# Altium footprint library Attend Footprints.PcbLib: 3 footprints
Each footprint in its own frame and in the unit in brackets; x right, y up, seen from the top. Pads: shape width x height; smd on the part's side, far side on the other; paste and mask are expansions set on the pad; w line width, h text height; cw(c..) or ccw(c..) is an arc to the next point about the centre after c.
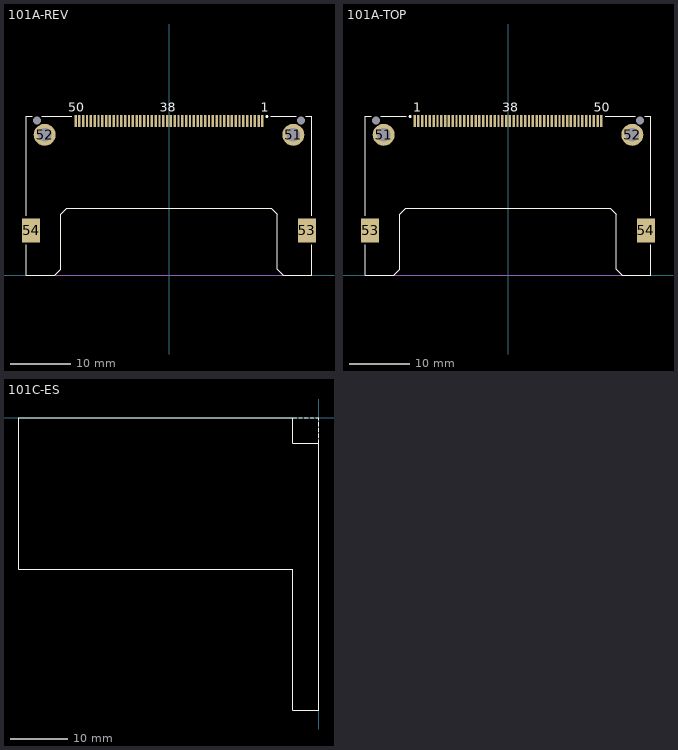
[diagram p0: the footprints below, top view; thin cyan lines are the x and y axes]

## 101A-REV [mm] "Connector; CompactFlash Card Header, SM; Reverse Mount; 50 Position; Right Angle; Pitch 0.635 mm"
height 6.8
pads (56):
  rect 0.4x2 smd: 1(15.557,25.7) 2(14.287,25.7) 3(13.018,25.7) 4(11.747,25.7) 5(10.477,25.7) 6(9.207,25.7) 7(7.938,25.7) 8(6.667,25.7) 9(5.397,25.7) 10(4.127,25.7) 11(2.857,25.7) 12(1.587,25.7) 13(0.318,25.7) 14(-0.953,25.7) 15(-2.222,25.7) 16(-3.492,25.7) 17(-4.763,25.7) 18(-6.032,25.7) 19(-7.302,25.7) 20(-8.572,25.7) 21(-9.842,25.7) 22(-11.112,25.7) 23(-12.383,25.7) 24(-13.652,25.7) 25(-14.922,25.7) 26(14.922,25.7) 27(13.652,25.7) 28(12.383,25.7) 29(11.112,25.7) 30(9.842,25.7) 31(8.572,25.7) 32(7.302,25.7) 33(6.032,25.7) 34(4.763,25.7) 35(3.492,25.7) 36(2.222,25.7) 37(0.953,25.7) 38(-0.318,25.7) 39(-1.587,25.7) 40(-2.857,25.7) 41(-4.127,25.7) 42(-5.397,25.7) 43(-6.667,25.7) 44(-7.938,25.7) 45(-9.207,25.7) 46(-10.477,25.7) 47(-11.747,25.7) 48(-13.018,25.7) 49(-14.287,25.7) 50(-15.557,25.7)
  round 3.65 hole 2.3: 51(20.7,23.4) 52(-20.7,23.4)
  rect 3x4 smd: 53(22.98,7.5) 54(-22.98,7.5)
  round 1 hole 1.3 unplated: 55(22,25.8) 56(-22,25.8)
Top Overlay:
  circle w0.25: c16.3,26.45 r0.125
  lines w0.2: -23.8,5.1 -23.8,0 -19,0 -18,1 -18,10.2 -17,11.2 17,11.2 18,10.2 18,1 19,0 23.8,0 23.8,5.1 ; -23.8,9.9 -23.8,26.5 -22.8,26.5 ; -21.2,26.5 -16.16,26.5 ; 16.957,26.5 21.2,26.5 ; 22.8,26.5 23.8,26.5 23.8,9.9
  text "38" at -1.568,27.25 h1.5
  text "1" at 15.308,27.25 h1.5
  text "50" at -16.808,27.25 h1.5
Mechanical 1:
  lines w0.1: -23.8,0 23.8,0
  text "PCB Edge" at -17.3,0.45 h0.6

## 101A-TOP [mm] "Connector; CompactFlash Card Header, SM; Standard Mount; 50 Position; Right Angle; Pitch 0.635 mm"
height 6.8
pads (56):
  rect 0.4x2 smd: 1(-15.557,25.7) 2(-14.287,25.7) 3(-13.018,25.7) 4(-11.747,25.7) 5(-10.477,25.7) 6(-9.207,25.7) 7(-7.938,25.7) 8(-6.667,25.7) 9(-5.397,25.7) 10(-4.127,25.7) 11(-2.857,25.7) 12(-1.587,25.7) 13(-0.318,25.7) 14(0.953,25.7) 15(2.222,25.7) 16(3.492,25.7) 17(4.763,25.7) 18(6.032,25.7) 19(7.302,25.7) 20(8.572,25.7) 21(9.842,25.7) 22(11.112,25.7) 23(12.383,25.7) 24(13.652,25.7) 25(14.922,25.7) 26(-14.922,25.7) 27(-13.652,25.7) 28(-12.383,25.7) 29(-11.112,25.7) 30(-9.842,25.7) 31(-8.572,25.7) 32(-7.302,25.7) 33(-6.032,25.7) 34(-4.763,25.7) 35(-3.492,25.7) 36(-2.222,25.7) 37(-0.953,25.7) 38(0.318,25.7) 39(1.587,25.7) 40(2.857,25.7) 41(4.127,25.7) 42(5.397,25.7) 43(6.667,25.7) 44(7.938,25.7) 45(9.207,25.7) 46(10.477,25.7) 47(11.747,25.7) 48(13.018,25.7) 49(14.287,25.7) 50(15.557,25.7)
  round 3.65 hole 2.3: 51(-20.7,23.4) 52(20.7,23.4)
  rect 3x4 smd: 53(-22.98,7.5) 54(22.98,7.5)
  round 1 hole 1.3 unplated: 55(-22,25.8) 56(22,25.8)
Top Overlay:
  circle w0.25: c-16.3,26.45 r0.125
  lines w0.2: -23.8,5.1 -23.8,0 -19,0 -18,1 -18,10.2 -17,11.2 17,11.2 18,10.2 18,1 19,0 23.8,0 23.8,5.1 ; -23.8,9.9 -23.8,26.5 -22.8,26.5 ; -21.2,26.5 -16.957,26.5 ; 16.16,26.5 21.2,26.5 ; 22.8,26.5 23.8,26.5 23.8,9.9
  text "50" at 14.307,27.25 h1.5
  text "1" at -15.807,27.25 h1.5
  text "38" at -0.933,27.25 h1.5
Mechanical 1:
  lines w0.1: -23.8,0 23.8,0
  text "PCB Edge" at -17.3,0.45 h0.6

## 101C-ES [mm] "Ejector for CompactFlash Card Header, Type II; Right Button"
height 7.12
Top Overlay:
  lines w0.2: -3.9,0 -4.56,0 ; -3.56,0 -2.9,0 ; -2.56,0 -1.9,0 ; -1.56,0 -0.9,0 ; -0.56,0 0,0 0,-0.45 ; 0,-3.79 0,-4.45 ; 0,-3.45 0,-2.79 ; 0,-2.45 0,-1.79 ; 0,-1.45 0,-0.79 ; -4.56,0 -4.56,-4.45 0,-4.45 ; -4.56,0 -52.2,0 -52.2,-26.4 -4.56,-26.4 -4.56,-50.9 0,-50.9 0,-4.45